# Altium integrated library Bubble_OCB100.IntLib: 20 symbols
Pins are listed as number, name and electrical type; pins without a type are passive.

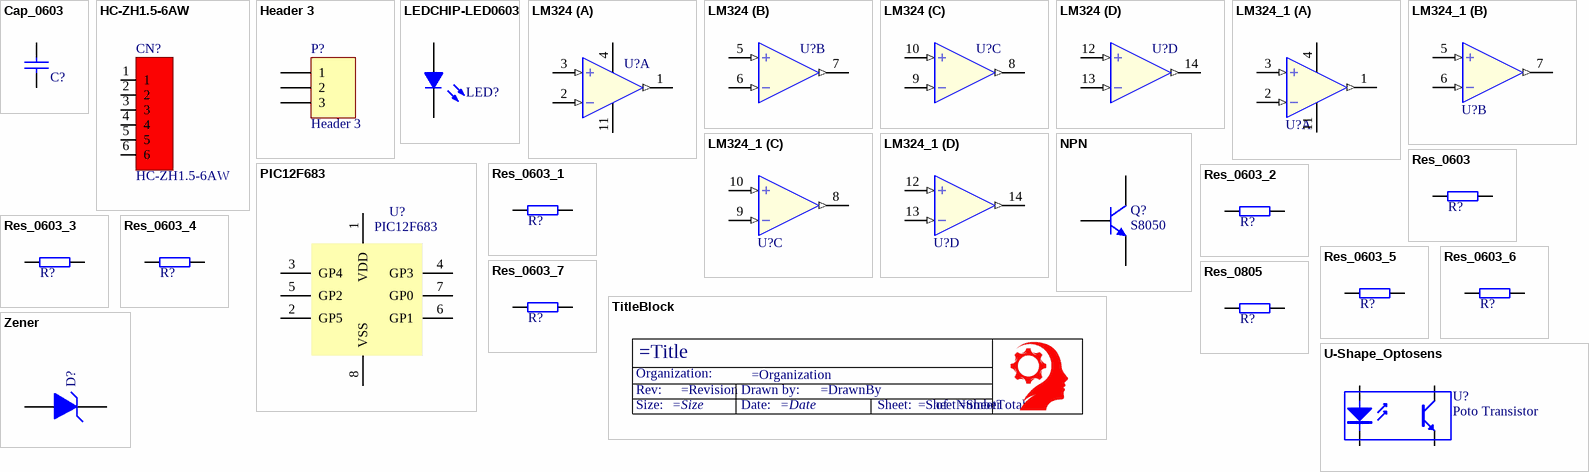
[diagram p0: symbols Cap_0603 to Zener]

## Cap_0603
designator C?, comment 100nF  (value not drawn)
Capacitor, X5R, ±10%, 6.3V; Part Number: C0603-N.C.; Manufacturer: N.A.; Artikkelnr Noca: 20069060; Datasheet: *; LatestRevisionDate: 2009-11-23; Pin Count: 2; Publisher: Nordic Semiconductor; Published: 2009-05-08; Value: 100nF; Volts: 6.3V; Supplier: *; Supplier part number: *; 2nd source Supplier: *; 2nd source part number: *; Footprint Doc: 0603; Artikkelnr Simpro: N.A.; Manufacturer Part Number: N.A.
footprint CAPC1608X06L
footprint C0603
footprint C0603-NO
pins: 1, 2

## HC-ZH1.5-6AW
designator CN?
1x6P 6P P=1.5mm Wire To Board Connector ROHS; Manufacturer: HCTL(华灿天禄); Add into BOM: yes; Pitch: 1.5mm; Reference Series: ZH; Number of PINs Per Row: 6; Current Rating (Max): 1A; Rated Voltage (Max): 100V; Plastic Material: PBT; Flame Retardant Rating: UL94V-0; Supplementary Features: K-leg punch; Z-Height of the Board: 3.7mm; X-Length of Bottom Edge on Board (Spacing Line): 10.5mm; Symbol: HC-ZH1.5-6AW; Device: HC-ZH1.5-6AW; LCSC Part Name: 1x6P 间距:1.5mm 弯插 系列:ZH; Supplier Part: C2845569; Manufacturer Part: HC-ZH1.5-6AW; Supplier Footprint: 弯插,P=1.5mm; JLCPCB Part Class: Extended Part; Datasheet: https://atta.szlcsc.com/upload/public/pdf/source/20230711/CEA84C90BC30863458C9BDB0466F53F6.pdf; Supplier: LCSC; Convert to PCB: yes; Pins Structure: 1x6P; Mounting Style: Bend insert; Number of Pins: 6P; Number of Rows: 1; Row Spacing: -; Contact Material: Brass; Contact Plating: Tin; Operating Temperature Range: -25℃~+85℃; Colour: -; Y-Width of Bottom Edge on Board: -
footprint CONN-TH_6P-P1.50_HCTL_C-ZH1.5-6AW
3D model CONN-TH_6P-P1.50_HCTL_C-ZH1.5-6AW
pins: 1, 2, 3, 4, 5, 6

## Header 3
designator P?
Header, 3-Pin; LatestRevisionDate: 17-Jul-2002; LatestRevisionNote: Re-released for DXP Platform.; Publisher: Altium Limited
footprint HDR1X3 (Connector; Header; 3 Position)
signal-integrity model Connector
pins: 1, 2, 3

## LEDCHIP-LED0603
designator LED?, comment LED  (value not drawn)
SMD lamp beads
footprint CHIP-LED0603
footprint CHIPLED_0603
footprint KA-3528ASYC
footprint CHIPLED_0603 - NO
pins: A, C K

## LM324
designator U?  (value not drawn)
Four channels 15nA 0.5V/us 1.2MHz SOIC-14 Operational Amplifier ROHS
footprint TSSOP14
footprint SOIC127P600X175-14N
part A pins: 1 OA (out), 2 A- (in), 3 A+ (in), 4 VCC, 11 GND
part B pins: 5 B+ (in), 6 B- (in), 7 OB (out)
part C pins: 8 OC (out), 9 C- (in), 10 C+ (in)
part D pins: 12 D+ (in), 13 D- (in), 14 OD (out)

## LM324_1
designator U?, comment National LM3622 li-ion charger    http://www.ladyada.net/library/eagle  (value not drawn)
Four channels 15nA 0.5V/us 1.2MHz SOIC-14 Operational Amplifier ROHS
footprint TSSOP14
footprint SOIC127P600X175-14N
part A pins: 1 OA (out), 2 A- (in), 3 A+ (in), 4 VCC, 11 GND
part B pins: 5 B+ (in), 6 B- (in), 7 OB (out)
part C pins: 8 OC (out), 9 C- (in), 10 C+ (in)
part D pins: 12 D+ (in), 13 D- (in), 14 OD (out)

## NPN
designator Q?, comment S8050
NPN Bipolar Transistor; Published: 8-Jun-2000; LatestRevisionDate: 17-Jul-2002; LatestRevisionNote: Re-released for DXP Platform.; PackageReference: TO-226-AA; Publisher: Altium Limited; PackageDescription: TO, Flat Index; 3 In-Line, Axial Leads; Body Dia. 4.8mm; Leads 0.55 x 0.51 mm (max); Code_JEDEC: TO-226-AA
simulation model NPN
signal-integrity model NPN
footprint SOT23
pins: 1 B, 2 E, 3 C

## PIC12F683
designator U?
Name: PIC12F683
footprint SOIC-8E (SOIC, 8-Leads, Body 4.90x3.90mm, Pitch 1.27mm, IPC Medium Density)
pins: 1 VDD (power), 2 GP5, 3 GP4, 4 GP3 (power), 5 GP2, 6 GP1, 7 GP0, 8 VSS

## Res_0603
designator R?, comment 470Ω  (value not drawn)
Resistor, ±1%, 0.100W; Part Number: R0603-N.C.Ω; Manufacturer: N.A.; Note: Chip Res; Manufacturer Part Number: N.A.; Datasheet: *; Footprint Doc: 0603; LatestRevisionDate: 2009-05-08; Pin Count: 2; Publisher: Nordic Semiconductor; Published: 2009-05-08; Value: 470Ω; Supplier: *; Supplier part number: *; 2nd source Supplier: *; 2nd source part number: *; Artikkelnr Noca: N.A.; Artikkelnr Simpro: N.A.
footprint R0603
footprint R0603-NO
pins: 1, 2

## Res_0603_1
designator R?, comment 220Ω  (value not drawn)
Resistor, ±1%, 0.100W; Part Number: R0603-N.C.Ω; Manufacturer: N.A.; Note: Chip Res; Manufacturer Part Number: N.A.; Datasheet: *; Footprint Doc: 0603; LatestRevisionDate: 2009-05-08; Pin Count: 2; Publisher: Nordic Semiconductor; Published: 2009-05-08; Value: 220Ω; Supplier: *; Supplier part number: *; 2nd source Supplier: *; 2nd source part number: *; Artikkelnr Noca: N.A.; Artikkelnr Simpro: N.A.
footprint R0603
footprint R0603-NO
pins: 1, 2

## Res_0603_2
designator R?, comment 10kΩ  (value not drawn)
Resistor, ±1%, 0.100W; Part Number: R0603-N.C.Ω; Manufacturer: N.A.; Note: Chip Res; Manufacturer Part Number: N.A.; Datasheet: *; Footprint Doc: 0603; LatestRevisionDate: 2009-05-08; Pin Count: 2; Publisher: Nordic Semiconductor; Published: 2009-05-08; Value: 10kΩ; Supplier: *; Supplier part number: *; 2nd source Supplier: *; 2nd source part number: *; Artikkelnr Noca: N.A.; Artikkelnr Simpro: N.A.
footprint R0603
footprint R0603-NO
pins: 1, 2

## Res_0603_3
designator R?, comment 2.7kΩ  (value not drawn)
Resistor, ±1%, 0.100W; Part Number: R0603-N.C.Ω; Manufacturer: N.A.; Note: Chip Res; Manufacturer Part Number: N.A.; Datasheet: *; Footprint Doc: 0603; LatestRevisionDate: 2009-05-08; Pin Count: 2; Publisher: Nordic Semiconductor; Published: 2009-05-08; Value: 2.7kΩ; Supplier: *; Supplier part number: *; 2nd source Supplier: *; 2nd source part number: *; Artikkelnr Noca: N.A.; Artikkelnr Simpro: N.A.
footprint R0603
footprint R0603-NO
pins: 1, 2

## Res_0603_4
designator R?, comment 100kΩ  (value not drawn)
Resistor, ±1%, 0.100W; Part Number: R0603-N.C.Ω; Manufacturer: N.A.; Note: Chip Res; Manufacturer Part Number: N.A.; Datasheet: *; Footprint Doc: 0603; LatestRevisionDate: 2009-05-08; Pin Count: 2; Publisher: Nordic Semiconductor; Published: 2009-05-08; Value: 100kΩ; Supplier: *; Supplier part number: *; 2nd source Supplier: *; 2nd source part number: *; Artikkelnr Noca: N.A.; Artikkelnr Simpro: N.A.
footprint R0603
footprint R0603-NO
pins: 1, 2

## Res_0603_5
designator R?, comment 15kΩ  (value not drawn)
Resistor, ±1%, 0.100W; Part Number: R0603-N.C.Ω; Manufacturer: N.A.; Note: Chip Res; Manufacturer Part Number: N.A.; Datasheet: *; Footprint Doc: 0603; LatestRevisionDate: 2009-05-08; Pin Count: 2; Publisher: Nordic Semiconductor; Published: 2009-05-08; Value: 15kΩ; Supplier: *; Supplier part number: *; 2nd source Supplier: *; 2nd source part number: *; Artikkelnr Noca: N.A.; Artikkelnr Simpro: N.A.
footprint R0603
footprint R0603-NO
pins: 1, 2

## Res_0603_6
designator R?, comment 27kΩ  (value not drawn)
Resistor, ±1%, 0.100W; Part Number: R0603-N.C.Ω; Manufacturer: N.A.; Note: Chip Res; Manufacturer Part Number: N.A.; Datasheet: *; Footprint Doc: 0603; LatestRevisionDate: 2009-05-08; Pin Count: 2; Publisher: Nordic Semiconductor; Published: 2009-05-08; Value: 27kΩ; Supplier: *; Supplier part number: *; 2nd source Supplier: *; 2nd source part number: *; Artikkelnr Noca: N.A.; Artikkelnr Simpro: N.A.
footprint R0603
footprint R0603-NO
pins: 1, 2

## Res_0603_7
designator R?, comment 39kΩ  (value not drawn)
Resistor, ±1%, 0.100W; Part Number: R0603-N.C.Ω; Manufacturer: N.A.; Note: Chip Res; Manufacturer Part Number: N.A.; Datasheet: *; Footprint Doc: 0603; LatestRevisionDate: 2009-05-08; Pin Count: 2; Publisher: Nordic Semiconductor; Published: 2009-05-08; Value: 39kΩ; Supplier: *; Supplier part number: *; 2nd source Supplier: *; 2nd source part number: *; Artikkelnr Noca: N.A.; Artikkelnr Simpro: N.A.
footprint R0603
footprint R0603-NO
pins: 1, 2

## Res_0805
designator R?, comment 100Ω  (value not drawn)
Resistor, ±1%, 0.200W; Manufacturer: *; Specification: ±1%
footprint R0805-NO
footprint R0805
pins: 1, 2

## TitleBlock
designator *?  (value not drawn)  (graphical)
Title Block for Schematic Sheets
text: Organization:; Rev:; Drawn by:; Size:; Date:; Sheet:; of

## U-Shape_Optosens
designator U?, comment Poto Transistor
4-Pin Phototransistor Optocoupler; Published: 24-Mar-1999; LatestRevisionDate: 04-Mar-2005; LatestRevisionNote: Sch pins 3 & 4 Swapped.; DatasheetVersion: Nov-2003; PackageReference: DIP-4; Publisher: Altium Limited
footprint JST_B4B-XH-A(LF)(SN)
footprint JST-PH2.0-4PINS
footprint U_Shape_Opto
pins: 1 A "Anode", 2 K "Cathode", 3 C "Collector", 4 E "Emitter"

## Zener
designator D?, comment D Zener  (value not drawn)
Zener Diode; Published: 8-Jun-2000; LatestRevisionDate: 17-Jul-2002; LatestRevisionNote: Re-released for DXP Platform.; PackageReference: DIODE-0.7; Publisher: Altium Limited; PackageDescription: Diode, Thru-Hole; 2 Leads; 0.7 in Pin Spacing
simulation model ZENER (Diode)
signal-integrity model D Zener
footprint SOD-323
pins: A, K